# Altium schematic symbol library OPA4132.SchLib: 1 symbol
Pins are listed as number, name and electrical type; pins without a type are passive.

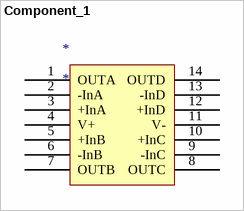
[diagram p0: symbol Component_1]

## Component_1
designator *
pins: 1 OUTA, 2 -InA, 3 +InA, 4 V+, 5 +InB, 6 -InB, 7 OUTB, 8 OUTC, 9 -InC, 10 +InC, 11 V-, 12 +InD, 13 -InD, 14 OUTD